# EAGLE library part DP83848C (library interface)
Commercial Temperature Single Port 10/100 Mb/s Ethernet Physical Layer Transceiver Description The DP83848C is a robust fully featured 10/100 single port Physical Layer device offering low power consumption, including several intelligent power down states. These low power modes increase overall product reliability due to decreased power dissipation. Supporting multiple intelligent power modes allows the application to use the absolute minimum amount of power needed for operation. The DP83848C includes a 25MHz clock out. This means that the application can be designed with a minimum of external parts, which in turn results in the lowest possible total cost of the solution. The DP83848C easily interfaces to twisted pair media via an external transformer. Both MII and RMII are supported ensuring ease and flexibility of design. The DP83848C features integrated sublayers to support both 10BASE-T and 100BASE-TX Ethernet protocols, which ensures compatibility and interoperability with all other standards based Ethernet solutions. The DP83848C is offered in a small form factor (48 pin LQFP) so that a minimum of board space is needed. Features • Low-power 3.3V, 0.18µm CMOS technology • Low power consumption < 270mW Typical • 3.3V MAC Interface • Auto-MDIX for 10/100 Mb/s • Energy Detection Mode • 25 MHz clock out • SNI Interface (configurable) • RMII Rev. 1.2 Interface (configurable) • MII Serial Management Interface (MDC and MDIO) • IEEE 802.3u MII • IEEE 802.3u Auto-Negotiation and Parallel Detection • IEEE 802.3u ENDEC, 10BASE-T transceivers and filters • IEEE 802.3u PCS, 100BASE-TX transceivers and filters • Integrated ANSI X3.263 compliant TP-PMD physical sublayer with adaptive equalization and Baseline Wander compensation • Error-free Operation up to 137 meters • Programmable LED support Link, 10 /100 Mb/s Mode, Activity, and Collision Detect • Single register access for complete PHY status • 10/100 Mb/s packet BIST (Built in Self Test) How to order Ref: Datasheet <http://www.ti.com/lit/ds/symlink/dp83848c.pdf>
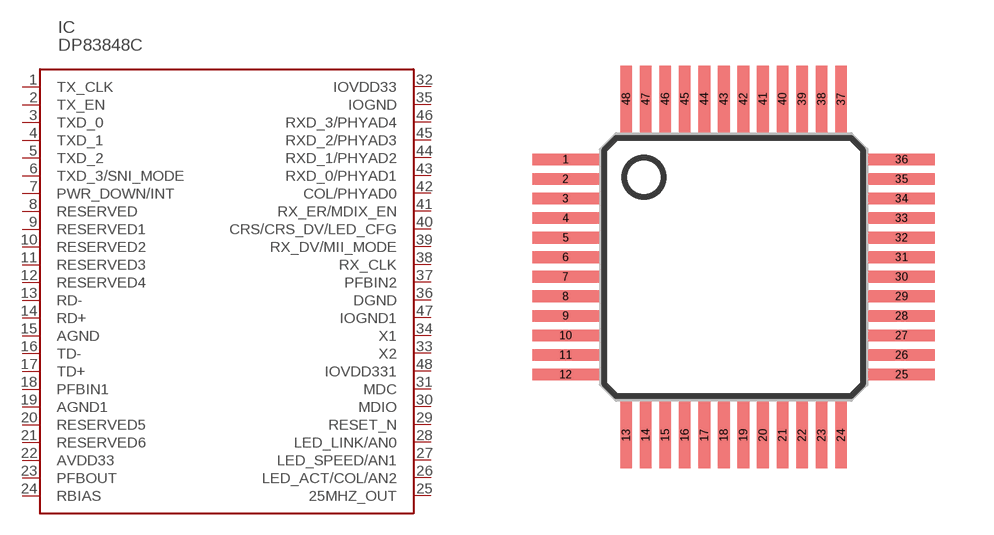
[diagram p0: symbol with the pads of QFP50P900X900X100-48N; footprint QFP50P900X900X100-48N]

Designator prefix IC

## DP83848C  [QFP50P900X900X100-48N]
1  TX_CLK
2  TX_EN
3  TXD_0
4  TXD_1
5  TXD_2
6  TXD_3/SNI_MODE
7  PWR_DOWN/INT
8  RESERVED
9  RESERVED1
10  RESERVED2
11  RESERVED3
12  RESERVED4
13  RD-
14  RD+
15  AGND  pwr
16  TD-
17  TD+
18  PFBIN1
19  AGND1  pwr
20  RESERVED5
21  RESERVED6
22  AVDD33
23  PFBOUT
24  RBIAS
25  25MHZ_OUT
26  LED_ACT/COL/AN2
27  LED_SPEED/AN1
28  LED_LINK/AN0
29  RESET_N
30  MDIO
31  MDC
32  IOVDD33  pwr
33  X2
34  X1
35  IOGND  pwr
36  DGND  pwr
37  PFBIN2
38  RX_CLK
39  RX_DV/MII_MODE
40  CRS/CRS_DV/LED_CFG
41  RX_ER/MDIX_EN
42  COL/PHYAD0
43  RXD_0/PHYAD1
44  RXD_1/PHYAD2
45  RXD_2/PHYAD3
46  RXD_3/PHYAD4
47  IOGND1  pwr
48  IOVDD331  pwr

## Footprint QFP50P900X900X100-48N (pad centres in mm)
USB-A R/A TH W/ REAR 9mm L x 9mm W x 1.0mm H ----------------------------------------------
smd 1.7 x 0.3: 1 -4.3,2.75; 2 -4.3,2.25; 3 -4.3,1.75; 4 -4.3,1.25; 5 -4.3,0.75; 6 -4.3,0.25; 7 -4.3,-0.25; 8 -4.3,-0.75; 9 -4.3,-1.25; 10 -4.3,-1.75; 11 -4.3,-2.25; 12 -4.3,-2.75; 25 4.3,-2.75; 26 4.3,-2.25; 27 4.3,-1.75; 28 4.3,-1.25; 29 4.3,-0.75; 30 4.3,-0.25; 31 4.3,0.25; 32 4.3,0.75; 33 4.3,1.25; 34 4.3,1.75; 35 4.3,2.25; 36 4.3,2.75
smd 0.3 x 1.7: 13 -2.75,-4.3; 14 -2.25,-4.3; 15 -1.75,-4.3; 16 -1.25,-4.3; 17 -0.75,-4.3; 18 -0.25,-4.3; 19 0.25,-4.3; 20 0.75,-4.3; 21 1.25,-4.3; 22 1.75,-4.3; 23 2.25,-4.3; 24 2.75,-4.3; 37 2.75,4.3; 38 2.25,4.3; 39 1.75,4.3; 40 1.25,4.3; 41 0.75,4.3; 42 0.25,4.3; 43 -0.25,4.3; 44 -0.75,4.3; 45 -1.25,4.3; 46 -1.75,4.3; 47 -2.25,4.3; 48 -2.75,4.3